# EAGLE library part TPS7A16 (library vreg-linear)
IC REG LDO 3.3V 0.1A
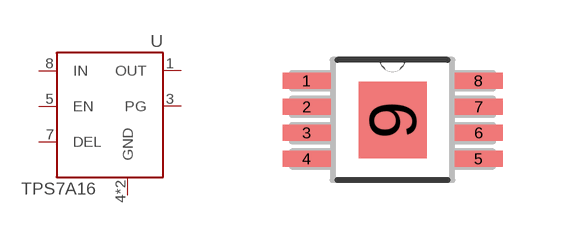
[diagram p11: symbol with the pads of MSOP08-POWERPAD1; footprint MSOP08-POWERPAD1]

Designator prefix U

## TPS7A1633 (DIGIKEY: 296-30223-1-ND; MFR: Texas Instruments; MPN: TPS7A1633DGNR; P1I: o)  [MSOP08-POWERPAD1]
1  OUT
3  PG
4  GND
5  EN
7  DEL
8  IN
9  GND

## Footprint MSOP08-POWERPAD1 (pad centres in mm)
smd 1.2 x 0.4: 1 -2.15,0.975; 2 -2.15,0.325; 3 -2.15,-0.325; 4 -2.15,-0.975; 5 2.15,-0.975; 6 2.15,-0.325; 7 2.15,0.325; 8 2.15,0.975
smd 1.7 x 1.92: 9 0,0